# EAGLE library part C326S (library untitled)
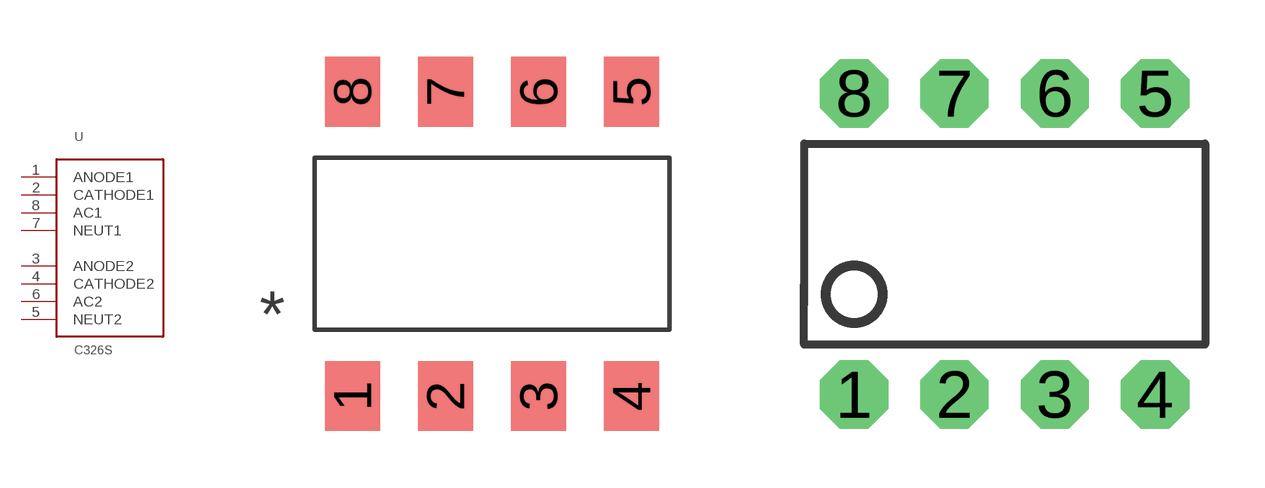
[diagram p2: symbol with the pads of SOP8; footprints SOP8, DIP08]

Designator prefix -

## C326S  [SOP8]
1  ANODE1
2  CATHODE1
3  ANODE2
4  CATHODE2
5  NEUT2
6  AC2
7  NEUT1
8  AC1

## C326SDIP8  [DIP08]
1  ANODE1
2  CATHODE1
3  ANODE2
4  CATHODE2
5  AC2
6  NEUT2
7  AC1
8  NEUT1

## Footprint SOP8 (pad centres in mm)
smd 1.5 x 1.9: 1 -3.81,-4.15; 2 -1.27,-4.15; 3 1.27,-4.15; 4 3.81,-4.15; 5 3.81,4.15; 6 1.27,4.15; 7 -1.27,4.15; 8 -3.81,4.15

## Footprint DIP08 (pad centres in mm)
Dual In Line
drill 0.813 pad 1.727 octagon: 1 -3.81,-3.81; 2 -1.27,-3.81; 3 1.27,-3.81; 4 3.81,-3.81; 5 3.81,3.81; 6 1.27,3.81; 7 -1.27,3.81; 8 -3.81,3.81